# Altium footprint library Supervisory_Circuits.PcbLib: 1 footprints
Each footprint in its own frame and in the unit in brackets; x right, y up, seen from the top. Pads: shape width x height; smd on the part's side, far side on the other; paste and mask are expansions set on the pad; w line width, h text height; cw(c..) or ccw(c..) is an arc to the next point about the centre after c.
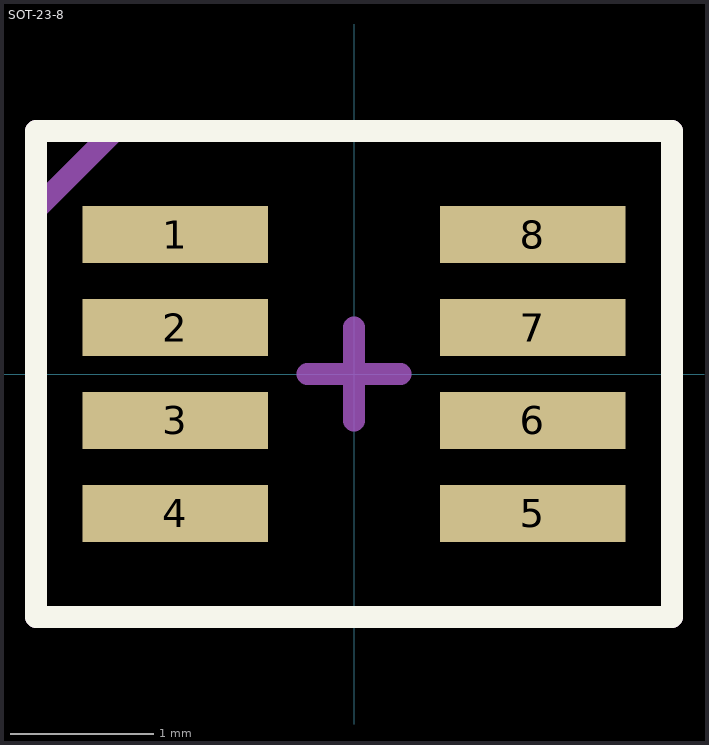
[diagram p0: the footprint, top view; thin cyan lines are the x and y axes]

## SOT-23-8 [mm]
pads (8):
  rect 1.3x0.4 smd: 1(-1.25,0.975) 2(-1.25,0.325) 3(-1.25,-0.325) 4(-1.25,-0.975) 5(1.25,-0.975) 6(1.25,-0.325) 7(1.25,0.325) 8(1.25,0.975)
Top Overlay:
  lines w0.153: -2.225,-1.7 -2.225,1.7 2.225,1.7 2.225,-1.7 -2.225,-1.7
  text "." at -2.722,1.978 h0.8
Top Assembly:
  lines w0.153: -2.213,1.162 -1.7,1.675 ; -2.225,-1.7 -2.225,1.7 2.225,1.7 2.225,-1.7 -2.225,-1.7
  text "'.Designator'" at -2.022,2.12 h0.8
Mechanical 15:
  lines w0.153: -2.175,1.2 -1.7,1.675 ; -0.325,0 0.325,0 ; 0,-0.325 0,0.325 ; -2.225,-1.7 -2.225,1.7 2.225,1.7 2.225,-1.7 -2.225,-1.7
3D body "sot23-8_p0-65_l3-0_w1-7.stp": height 1.3, standoff -0.15, extent -1.5,-1.5 1.5,1.5